# Altium footprint library SamacSys.PcbLib: 27 footprints (part 1 of 2)
Each footprint in its own frame and in the unit in brackets; x right, y up, seen from the top. Pads: shape width x height; smd on the part's side, far side on the other; paste and mask are expansions set on the pad; w line width, h text height; cw(c..) or ccw(c..) is an arc to the next point about the centre after c.
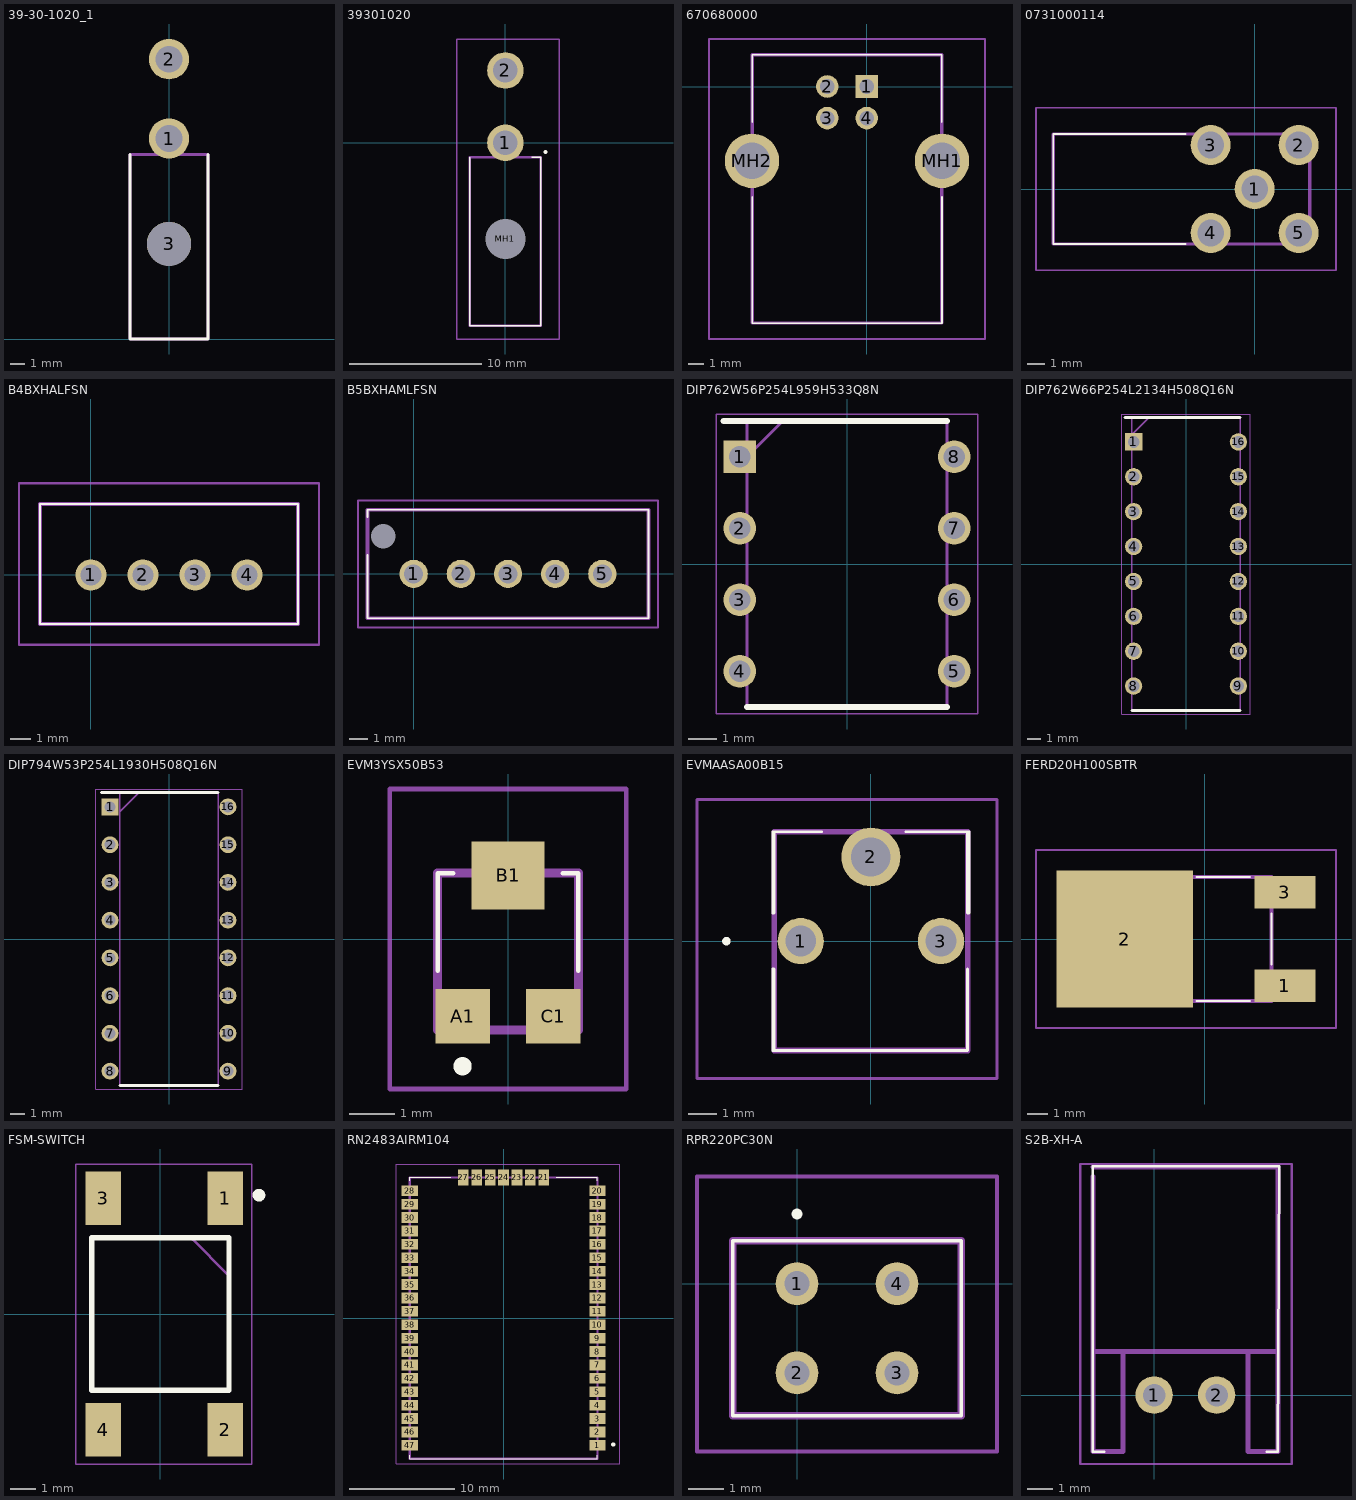
[diagram p0: the footprints below, top view; thin cyan lines are the x and y axes]

## 39-30-1020_1 [mm]
pads (3):
  round 2.8 hole 1.85: 1(0,13.9) 2(0,19.4)
  round 3.05 hole 3.05 unplated: 3(0,6.6)
Top Overlay:
  lines w0.2: -2.7,12.8 -2.7,0 2.7,0 2.7,12.8
Mechanical 13:
  lines w0.2: -2.7,0 -2.7,12.8 2.7,12.8 2.7,0 -2.7,0
3D body "39-30-1020.stp": height 11.4, standoff -3.6, extent -2.7,0.01 3.1,19.945

## 39301020 [mm]
pads (3):
  round 2.775 hole 1.85: 1(0,0) 2(0,5.5)
  round 1.525 hole 3.05 unplated: MH1(0,-7.3)
Top Overlay:
  lines w0.1: -2.7,-1.1 -2.7,-13.9 2.7,-13.9 2.7,-1.1 2,-1.1
  lines w0.2: 3,-0.7 cw(c3.05,-0.7) 3.1,-0.7 cw(c3.05,-0.7) 3,-0.7
Mechanical 13:
  lines w0.2: -2.7,-13.9 -2.7,-1.1 2.7,-1.1 2.7,-13.9 -2.7,-13.9
Mechanical 15:
  lines w0.1: -3.7,-14.9 -3.7,7.887 4.1,7.887 4.1,-14.9 -3.7,-14.9
3D body "39301020.stp": height 10.75, standoff -4.25, extent -2.7,-14 3.1,5.935

## 670680000 [mm]
pads (6):
  rect 1.431x1.431 hole 0.92: 1(0,0)
  round 1.431 hole 0.92: 2(-2.5,0) 3(-2.5,-2) 4(0,-2)
  round 3.45 hole 2.3: MH1(4.77,-4.71) MH2(-7.27,-4.71)
Top Overlay:
  lines w0.1: -7.25,-14.99 4.77,-14.99 ; -7.25,-14.99 -7.25,-15 4.77,-15 4.77,-14.99 ; -7.25,-14.99 -7.25,-7 -7.25,-14.99 ; -7.25,2 4.75,2 ; -7.25,2 4.75,2 ; -7.25,2 -7.25,-2.25 -7.25,2 ; 4.75,2 4.75,-2.25 4.75,2 ; 4.77,-14.99 4.77,-7 4.77,-14.99
Mechanical 13:
  lines w0.2: -7.25,-14.99 4.75,-14.99 4.75,2.01 -7.25,2.01 -7.25,-14.99
Mechanical 15:
  lines w0.1: -9.995,-16 7.495,-16 7.495,3.01 -9.995,3.01 -9.995,-16
3D body "67068-0000.stp": height 11.1, standoff -5, extent -8.32,-14.99 5.82,2.01

## 0731000114 [mm]
pads (5):
  round 2.31 hole 1.54: 1(0,0) 2(2.54,2.54) 3(-2.54,2.54) 4(-2.54,-2.54) 5(2.54,-2.54)
Top Overlay:
  lines w0.1: -4,-3.175 -11.625,-3.175 -11.625,3.175 -4,3.175
Mechanical 13:
  lines w0.2: -11.625,-3.175 -11.625,3.175 3.175,3.175 3.175,-3.175 -11.625,-3.175
Mechanical 15:
  lines w0.1: -12.625,-4.695 -12.625,4.695 4.695,4.695 4.695,-4.695 -12.625,-4.695
3D body "0731000114.stp": height 9.67, standoff -5, extent -11.625,-3.205 3.21,3.205

## B4BXHALFSN [mm]
pads (4):
  round 1.5 hole 1: 1(0,0) 2(2.5,0) 3(5,0) 4(7.5,0)
Top Overlay:
  lines w0.1: -2.45,-2.35 -2.45,3.4 9.95,3.4 9.95,-2.35 -2.45,-2.35
Mechanical 13:
  lines w0.2: -2.45,-2.35 -2.45,3.4 9.95,3.4 9.95,-2.35 -2.45,-2.35
Mechanical 15:
  lines w0.1: -3.45,-3.35 -3.45,4.4 10.95,4.4 10.95,-3.35 -3.45,-3.35
3D body "B4B-XH-A_LF__SN_.stp": height 7.52, standoff -2.88, extent -2.454,-2.355 9.946,3.395

## B5BXHAMLFSN [mm]
pads (6):
  round 1.5 hole 1: 1(0,0) 2(2.5,0) 3(5,0) 4(7.5,0) 5(10,0)
  round 0.65 hole 1.3 unplated: MH1(-1.6,2)
Top Overlay:
  lines w0.1: -2.45,1 -2.45,-2.35 12.45,-2.35 12.45,3.4 -2.45,3.4 -2.45,3
Mechanical 13:
  lines w0.2: -2.45,-2.35 -2.45,3.4 12.45,3.4 12.45,-2.35 -2.45,-2.35
Mechanical 15:
  lines w0.1: -2.95,-2.85 -2.95,3.9 12.95,3.9 12.95,-2.85 -2.95,-2.85
3D body "B5B-XH-AM__LF__SN_.stp": height 6.92, standoff -3.48, extent -2.45,-2.355 12.45,3.395

## DIP762W56P254L959H533Q8N [mm]
pads (8):
  rect 1.16x1.16 hole 0.76: 1(-3.81,3.81)
  round 1.16 hole 0.76: 2(-3.81,1.27) 3(-3.81,-1.27) 4(-3.81,-3.81) 5(3.81,-3.81) 6(3.81,-1.27) 7(3.81,1.27) 8(3.81,3.81)
Top Overlay:
  lines w0.2: -4.39,5.08 3.555,5.08 ; -3.555,-5.08 3.555,-5.08
Mechanical 13:
  lines w0.1: -3.555,3.81 -2.285,5.08 ; -3.555,-5.08 3.555,-5.08 3.555,5.08 -3.555,5.08 -3.555,-5.08
Mechanical 15:
  lines w0.05: -4.64,-5.33 4.64,-5.33 4.64,5.33 -4.64,5.33 -4.64,-5.33
3D body "NE555N.stp": height 5.33, standoff -3.5, extent -3.95,-4.795 3.95,4.795

## DIP762W66P254L2134H508Q16N [mm]
pads (16):
  rect 1.26x1.26 hole 0.86: 1(-3.81,8.89)
  round 1.26 hole 0.86: 2(-3.81,6.35) 3(-3.81,3.81) 4(-3.81,1.27) 5(-3.81,-1.27) 6(-3.81,-3.81) 7(-3.81,-6.35) 8(-3.81,-8.89) 9(3.81,-8.89) 10(3.81,-6.35) 11(3.81,-3.81) 12(3.81,-1.27) 13(3.81,1.27) 14(3.81,3.81) 15(3.81,6.35) 16(3.81,8.89)
Top Overlay:
  lines w0.2: -4.44,10.67 3.935,10.67 ; -3.935,-10.67 3.935,-10.67
Mechanical 13:
  lines w0.1: -3.935,9.4 -2.665,10.67 ; -3.935,-10.67 -3.935,10.67 3.935,10.67 3.935,-10.67 -3.935,-10.67
Mechanical 15:
  lines w0.05: -4.69,-10.92 -4.69,10.92 4.69,10.92 4.69,-10.92 -4.69,-10.92
3D body "CD4029BDMSR.stp": height 5.08, standoff -3.5, extent -3.975,-10.67 3.975,10.67

## DIP794W53P254L1930H508Q16N [mm]
pads (16):
  rect 1.13x1.13 hole 0.73: 1(-3.97,8.89)
  round 1.13 hole 0.73: 2(-3.97,6.35) 3(-3.97,3.81) 4(-3.97,1.27) 5(-3.97,-1.27) 6(-3.97,-3.81) 7(-3.97,-6.35) 8(-3.97,-8.89) 9(3.97,-8.89) 10(3.97,-6.35) 11(3.97,-3.81) 12(3.97,-1.27) 13(3.97,1.27) 14(3.97,3.81) 15(3.97,6.35) 16(3.97,8.89)
Top Overlay:
  lines w0.2: -4.535,9.845 3.3,9.845 ; -3.3,-9.845 3.3,-9.845
Mechanical 13:
  lines w0.1: -3.3,8.575 -2.03,9.845 ; -3.3,-9.845 -3.3,9.845 3.3,9.845 3.3,-9.845 -3.3,-9.845
Mechanical 15:
  lines w0.05: -4.945,-10.095 -4.945,10.095 4.945,10.095 4.945,-10.095 -4.945,-10.095
3D body "CD40193BE.stp": height 5.08, standoff -3.5, extent -4.102,-9.653 4.102,9.653

## EVM3YSX50B53 [mm]
pads (3):
  rect 1.2x1.2 smd: A1(-1,-1.7) C1(1,-1.7)
  rect 1.6x1.5 smd: B1(0,1.4)
Top Overlay:
  lines w0.1: -1.55,-0.7 -1.55,1.45 -1.2,1.45 ; 1.2,1.45 1.55,1.45 1.55,-0.7
  lines w0.2: -1,-2.9 ccw(c-1,-2.8) -1,-2.7 ccw(c-1,-2.8) -1,-2.9
Mechanical 13:
  lines w0.2: -1.55,-2 -1.55,1.45 1.55,1.45 1.55,-2 -1.55,-2
Mechanical 15:
  lines w0.1: -2.6,-3.3 -2.6,3.3 2.6,3.3 2.6,-3.3 -2.6,-3.3
3D body "EVM-3YSX50B53.stp": height 1.65, standoff 0, extent -1.55,-2.18 1.55,2

## EVMAASA00B15 [mm]
pads (3):
  round 1.65 hole 1.1: 1(-2.5,0) 3(2.5,0)
  round 2.1 hole 1.4: 2(0,3)
Top Overlay:
  lines w0.1: -3.5,-3.9 -3.45,-3.9 -3.45,-1 -3.5,-1 -3.5,-3.9 ; -3.5,-3.9 3.45,-3.9 ; -3.5,-3.9 3.45,-3.9 ; -3.5,3.9 -1.75,3.9 -3.5,3.9 ; -3.5,3.9 -3.45,3.9 -3.45,1 -3.5,1 -3.5,3.9 ; 3.45,-3.9 3.45,-1 3.45,-3.9 ; 3.45,3.9 1.25,3.9 3.45,3.9 ; 3.45,3.9 3.5,3.9 3.5,1 3.45,1 3.45,3.9
  lines w0.2: -5.2,0 ccw(c-5.15,0) -5.1,0 ; -5.2,0 cw(c-5.15,0) -5.1,0 ; -5.2,0 ccw(c-5.15,0) -5.1,0
Mechanical 13:
  lines w0.2: -3.45,-3.9 3.45,-3.9 3.45,3.9 -3.45,3.9 -3.45,-3.9
Mechanical 15:
  lines w0.1: -6.2,-4.9 4.5,-4.9 4.5,5.05 -6.2,5.05 -6.2,-4.9
3D body "EVM-AASA00B15.stp": height 7.7, standoff -5, extent -3.45,-3.9 3.45,3.9

## FERD20H100SBTR [mm]
pads (3):
  rect 3x1.6 smd: 1(3.925,-2.286) 3(3.925,2.286)
  rect 6.7x6.7 smd: 2(-3.925,0)
Top Overlay:
  lines w0.1: -0.4,-3.047 2.2,-3.047 ; -0.4,3.047 2.2,3.047 ; 3.27,-1.25 3.27,1.25
Mechanical 13:
  lines w0.2: -3.27,-3.047 -3.27,3.047 3.27,3.047 3.27,-3.047 -3.27,-3.047
Mechanical 15:
  lines w0.1: -8.275,-4.35 -8.275,4.35 6.425,4.35 6.425,-4.35 -8.275,-4.35
3D body "TO252 Gehäuse.step": height 2.3, standoff -0.05, extent -4.985,-3.198 3.715,3.302

## FSM-SWITCH [mm]
pads (4):
  rect 1.4x2.1 smd: 1(2.55,4.55) 2(2.55,-4.55) 3(-2.25,4.55) 4(-2.25,-4.55)
Top Overlay:
  circle w0.25: c3.875,4.675 r0.125
  lines w0.2: -2.7,-3 -2.7,3 2.7,3 2.7,-3 -2.7,-3
Mechanical 13:
  lines w0.1: 1.275,2.925 2.625,1.575 ; -2.7,-3 -2.7,3 2.7,3 2.7,-3 -2.7,-3
Mechanical 15:
  lines w0.05: -3.325,-5.9 -3.325,5.9 3.6,5.9 3.6,-5.9 -3.325,-5.9
3D body: height 5.1, standoff 3.6, extent -1.898,-2.032 2.102,1.967
3D body "4-1437565-1.stp": height 5, standoff -0.07, extent -2.873,-5 3.127,5

## RN2483AIRM104 [mil]
pads (47):
  rect 60x40 smd: 1(350,-475) 2(350,-425) 3(350,-375) 4(350,-325) 5(350,-275) 6(350,-225) 7(350,-175) 8(350,-125) 9(350,-75) 10(350,-25) 11(350,25) 12(350,75) 13(350,125) 14(350,175) 15(350,225) 16(350,275) 17(350,325) 18(350,375) 19(350,425) 20(350,475) 28(-350,475) 29(-350,425) 30(-350,375) 31(-350,325) 32(-350,275) 33(-350,225) 34(-350,175) 35(-350,125) 36(-350,75) 37(-350,25) 38(-350,-25) 39(-350,-75) 40(-350,-125) 41(-350,-175) 42(-350,-225) 43(-350,-275) 44(-350,-325) 45(-350,-375) 46(-350,-425) 47(-350,-475)
  rect 40x60 smd: 21(150,525) 22(100,525) 23(50,525) 24(0,525) 25(-50,525) 26(-100,525) 27(-150,525)
Top Overlay:
  lines w3.94: -350,-511.81 -350,-525 350,-525 350,-511.81 ; -350,511.81 -350,525 -196.85,525 ; 196.85,525 350,525 350,511.81
  lines w7.87: 409.45,-476.38 cw(c409.45,-472.44) 409.45,-468.5 cw(c409.45,-472.44) 409.45,-476.38
Mechanical 13:
  lines w7.87: -350,-525 -350,525 350,525 350,-525 -350,-525
Mechanical 15:
  lines w3.94: -399.69,-544.68 -399.69,574.68 433.07,574.68 433.07,-544.68 -399.69,-544.68
3D body "RN2483A-I_RM105.stp": height 137.2, standoff 5.12, extent -353.19,-497.44 350.83,554.57

## RPR220PC30N [mm]
pads (4):
  round 1.2 hole 0.7: 1(0,0) 2(0,-2.5) 3(2.8,-2.5) 4(2.8,0)
Top Overlay:
  lines w0.1: -1.8,-3.7 -1.8,1.2 4.6,1.2 4.6,-3.7 -1.8,-3.7
  lines w0.2: 0,1.9 cw(c0,1.95) 0,2 ; 0,1.9 ccw(c0,1.95) 0,2 ; 0,1.9 cw(c0,1.95) 0,2
Mechanical 13:
  lines w0.2: -1.8,-3.7 -1.8,1.2 4.6,1.2 4.6,-3.7 -1.8,-3.7
Mechanical 15:
  lines w0.1: -2.8,-4.7 -2.8,3 5.6,3 5.6,-4.7 -2.8,-4.7
3D body "RPR-220PC30N.stp": height 6.6, standoff -5, extent -1.8,-3.7 4.6,1.2

## S2B-XH-A [mm]
pads (2):
  round 1.5 hole 0.9: 1(0,0) 2(2.5,0)
Top Overlay:
  lines w0.1: -2,-2.257 -2.45,-2.257 -2.45,9.144 5.002,9.144 4.95,-2.257 4.5,-2.257
Mechanical 13:
  lines w0.2: -2.45,8.743 -2.45,1.743 ; -2.45,9.124 4.95,9.124 ; 4.95,9.017 4.95,1.743 ; -2.45,1.743 4.95,1.743 ; -2.45,1.743 -1.25,1.743 -1.25,-2.257 -2.45,-2.257 -2.45,1.743 ; 4.95,1.743 3.75,1.743 3.75,-2.257 4.95,-2.257 4.95,1.743
Mechanical 15:
  lines w0.1: -2.95,-2.757 5.5,-2.757 5.5,9.243 -2.95,9.243 -2.95,-2.757
3D body "S2B-XH-A(LF)(SN)--3DModel-STEP-56544.STEP": height 6.15, standoff -3.4, extent -2.413,-2.321 4.987,9.179